# EAGLE library part SN74LVC8T245 (library Janus-IC)
8-Bit Dual-Supply Bus Transceiver, 3 State Output
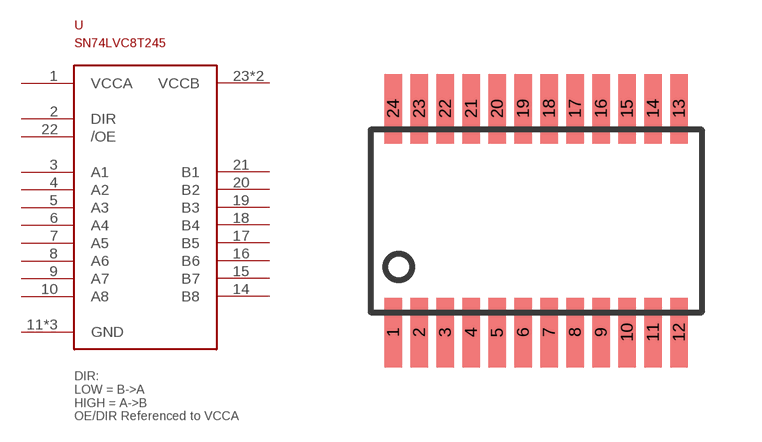
[diagram p4: symbol with the pads of TSSOP-24; footprint TSSOP-24]

Designator prefix U

## SN74LVC8T245PWR  [TSSOP-24]
1  VCCA
2  DIR
3  A1
4  A2
5  A3
6  A4
7  A5
8  A6
9  A7
10  A8
11  GND
12  GND
13  GND
14  B8
15  B7
16  B6
17  B5
18  B4
19  B3
20  B2
21  B1
22  /OE
23  VCCB
24  VCCB

## Footprint TSSOP-24 (pad centres in mm)
smd 0.44 x 1.74: 1 0,0; 2 0.65,0; 3 1.3,0; 4 1.95,0; 5 2.6,0; 6 3.25,0; 7 3.9,0; 8 4.55,0; 9 5.2,0; 10 5.85,0; 11 6.5,0; 12 7.15,0; 13 7.15,5.6; 14 6.5,5.6; 15 5.85,5.6; 16 5.2,5.6; 17 4.55,5.6; 18 3.9,5.6; 19 3.25,5.6; 20 2.6,5.6; 21 1.95,5.6; 22 1.3,5.6; 23 0.65,5.6; 24 0,5.6